# Altium schematic symbol library J_581-M09-213L462.SchLib: 1 symbol
Pins are listed as number, name and electrical type; pins without a type are passive.

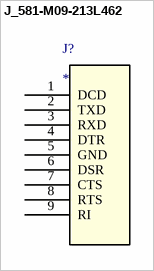
[diagram p0: symbol J_581-M09-213L462]

## J_581-M09-213L462
designator J?
9 Position D-Type, Micro-D Receptacle, Female Sockets Connector; Mfr_Name: Norcomp Inc.; RefDes: RefDes; Type: Type
footprint CONN_581-M09-213L462_NRC
pins: 1 DCD, 2 TXD, 3 RXD, 4 DTR, 5 GND, 6 DSR, 7 CTS, 8 RTS, 9 RI